# Altium integrated library TPSE477K010R0060.IntLib: 1 symbol
Pins are listed as number, name and electrical type; pins without a type are passive.

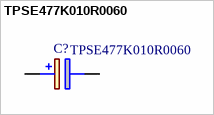
[diagram p0: symbol TPSE477K010R0060]

## TPSE477K010R0060
designator C?
Capacitor tantalum TPS 2717 470uF 10V AVX +/-10% 470uF 10 V dc SMD Tantalum Electrolytic Capacitor, 7343-43 ESR 60m +125C TPS; Manufacturer_Name: Kyocera AVX; Geometry.Height: 4.3mm; Mouser Part Number: 581-TPSE477K010R0060; Mouser Price/Stock: https://www.mouser.com/Search/Refine.aspx?Keyword=581-TPSE477K010R0060; Manufacturer_Part_Number: TPSE477K010R0060; Datasheet Link: https://componentsearchengine.com/Datasheets/1/TPSE477K010R0060.pdf
footprint CAPPM7344X430N
pins: 1 +, 2 -